# Altium footprint library jasiel.PcbLib: 39 footprints (part 3 of 3)
Each footprint in its own frame and in the unit in brackets; x right, y up, seen from the top. Pads: shape width x height; smd on the part's side, far side on the other; paste and mask are expansions set on the pad; w line width, h text height; cw(c..) or ccw(c..) is an arc to the next point about the centre after c.
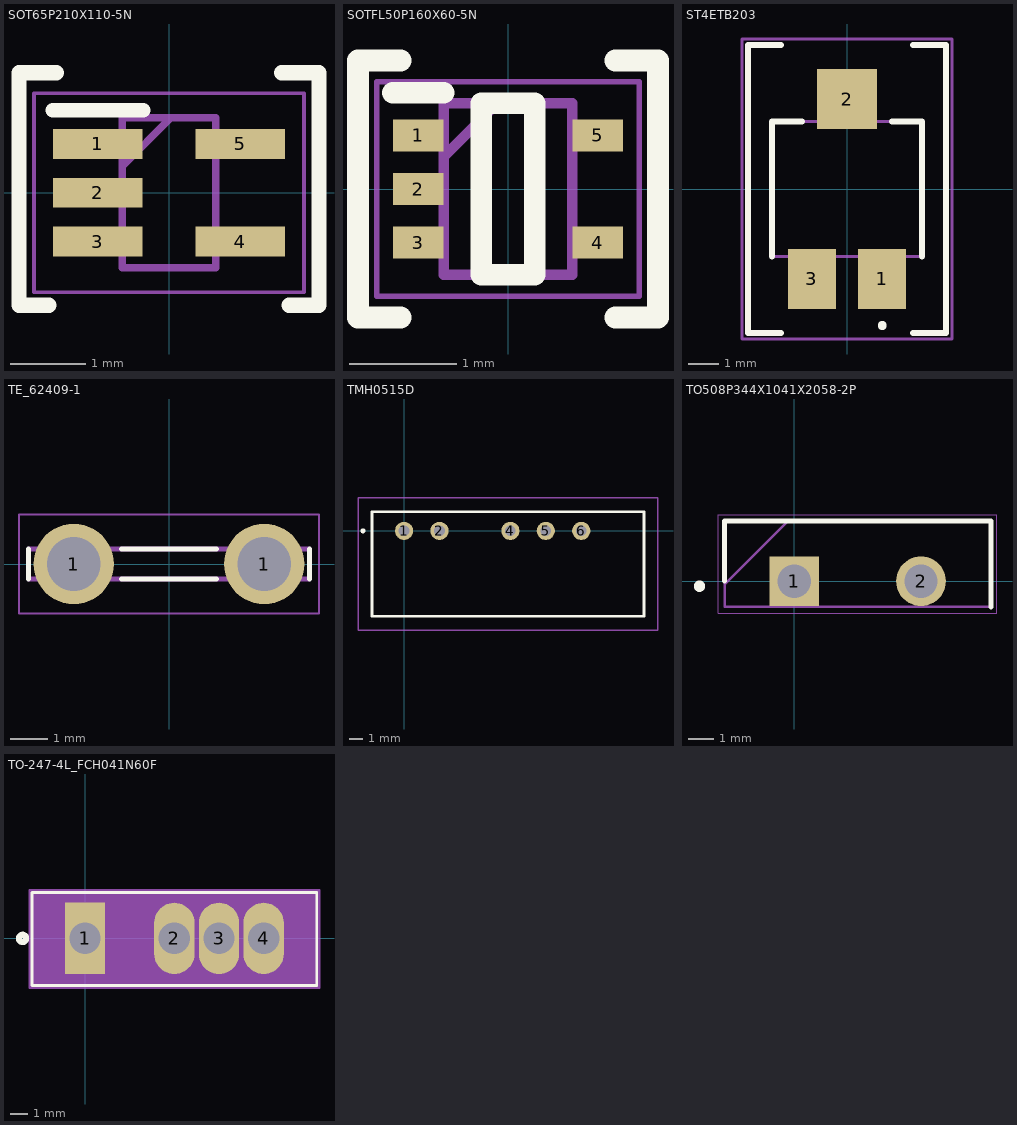
[diagram p2: the footprints below, top view; thin cyan lines are the x and y axes]

## SOT65P210X110-5N [mm]
pads (5):
  rect 1.2x0.4 smd: 1(-0.95,0.65) 2(-0.95,0) 3(-0.95,-0.65) 4(0.95,-0.65) 5(0.95,0.65)
Top Overlay:
  lines w0.2: -1.55,1.1 -0.35,1.1
  lines w0.203: -1.6,-1.5 -2,-1.5 -2,1.6 -1.5,1.6 ; 1.5,1.6 2,1.6 2,-1.5 1.6,-1.5
Mechanical 13:
  lines w0.1: -0.625,0.35 0.025,1 ; -0.625,-1 -0.625,1 0.625,1 0.625,-1 -0.625,-1
Mechanical 15:
  lines w0.05: -1.8,-1.325 -1.8,1.325 1.8,1.325 1.8,-1.325 -1.8,-1.325
3D body "SN74AHC1G09DCKR.stp": height 1.1, standoff 0, extent -1.2,-1 0.9,1

## SOTFL50P160X60-5N [mm]
pads (5):
  rect 0.475x0.3 smd: 1(-0.838,0.5) 2(-0.838,0) 3(-0.838,-0.5) 4(0.838,-0.5) 5(0.838,0.5)
Top Overlay:
  lines w0.2: -1.075,0.9 -0.6,0.9 ; -0.25,-0.8 -0.25,0.8 0.25,0.8 0.25,-0.8 -0.25,-0.8
  lines w0.203: -1,-1.2 -1.4,-1.2 -1.4,1.2 -1,1.2 ; 1,-1.2 1.4,-1.2 1.4,1.2 1,1.2
Mechanical 13:
  lines w0.1: -0.6,0.3 -0.1,0.8 ; -0.6,-0.8 -0.6,0.8 0.6,0.8 0.6,-0.8 -0.6,-0.8
Mechanical 15:
  lines w0.05: -1.225,-1 -1.225,1 1.225,1 1.225,-1 -1.225,-1
3D body "SN74AHC1G14DRLR.stp": height 0.6, standoff 0, extent -0.8,-0.8 0.8,0.8

## ST4ETB203 [mm]
pads (3):
  rect 1.6x2 smd: 1(1.175,-3) 3(-1.175,-3)
  rect 2x2 smd: 2(0,3)
Top Overlay:
  lines w0.2: -2.5,-2.25 -2.5,2.25 -1.5,2.25 ; 1.5,2.25 2.5,2.25 2.5,-2.25 ; 1.175,-4.6 cw(c1.175,-4.55) 1.175,-4.5 ; 1.175,-4.6 ccw(c1.175,-4.55) 1.175,-4.5 ; 1.175,-4.6 1.175,-4.5
  lines w0.203: -2.2,-4.8 -3.3,-4.8 -3.3,4.8 -2.2,4.8 ; 2.2,-4.8 3.3,-4.8 3.3,4.8 2.2,4.8
Mechanical 13:
  lines w0.1: -2.5,-2.25 -2.5,2.25 2.5,2.25 2.5,-2.25 -2.5,-2.25
Mechanical 15:
  lines w0.1: -3.5,-5 -3.5,5 3.5,5 3.5,-5 -3.5,-5
3D body "ST-4ETB203.stp": height 2.7, standoff 0, extent -2.5,-3.84 2.5,3.8

## TE_62409-1 [mm]
pads (2):
  round 2.145 hole 1.43: 1(-2.54,0) 1(2.54,0)
Top Overlay:
  lines w0.127: -3.75,-0.4 -3.75,0.4 ; -1.27,-0.4 1.27,-0.4 ; -1.27,0.4 1.27,0.4 ; 3.75,-0.4 3.75,0.4
Mechanical 13:
  lines w0.127: -3.75,-0.4 -3.75,0.4 3.75,0.4 3.75,-0.4 -3.75,-0.4
  text "'.Designator'" at -3.837,-0.87 h0.9
Mechanical 15:
  lines w0.05: -4,-1.32 -4,1.32 4,1.32 4,-1.32 -4,-1.32
3D body "Faston-62409-1--3DModel-STEP-1.STEP": height 12.64, standoff -3.16, extent -3.746,-0.4 3.747,0.4

## TMH0515D [mm]
pads (5):
  round 1.303 hole 0.76: 1(0,0) 2(2.54,0) 4(7.62,0) 5(10.16,0) 6(12.7,0)
Top Overlay:
  circle w0.254: c-2.95,0 r0.05
  lines w0.2: -3,0 cw(c-2.95,0) -2.9,0 ; -3,0 ccw(c-2.95,0) -2.9,0 ; -3,0 cw(c-2.95,0) -2.9,0 ; -2.3,-6.125 17.2,-6.125 17.2,1.375 -2.3,1.375 -2.3,-6.125
Mechanical 13:
  lines w0.1: -2.3,-6.125 17.2,-6.125 17.2,1.375 -2.3,1.375 -2.3,-6.125
Mechanical 15:
  lines w0.1: -3.3,-7.125 18.2,-7.125 18.2,2.375 -3.3,2.375 -3.3,-7.125
3D body "TMH_0515D.stp": height 10.2, standoff -3.2, extent -2.259,-6.497 17.369,1.438

## TO508P344X1041X2058-2P [mm]
pads (2):
  rect 1.995x1.995 hole 1.33: 1(0,0)
  round 1.995 hole 1.33: 2(5.08,0)
Top Overlay:
  circle w0.254: c-3.8,-0.2 r0.1
  lines w0.2: -2.795,0 -2.795,2.41 7.875,2.41 7.875,-1.03
Mechanical 13:
  lines w0.1: -2.795,-0.13 -0.255,2.41 ; -2.795,-1.03 -2.795,2.41 7.875,2.41 7.875,-1.03 -2.795,-1.03
Mechanical 15:
  lines w0.05: -3.045,-1.28 -3.045,2.66 8.125,2.66 8.125,-1.28 -3.045,-1.28
3D body "MP925-20.0K-1%.stp": height 19.71, standoff -32.52, extent -2.665,-1.03 7.745,2.41

## TO-247-4L_FCH041N60F [mm]
pads (4):
  rect 2.29x4.06 / inner rect 2.286x2.286 / far side rect 2.286x2.286 hole 1.78 mask+0: 1(0,0)
  oval 2.29x4.06 / inner round 1.575 / far side round 1.575 hole 1.78 mask+0: 2(5.08,0) 3(7.62,0) 4(10.16,0)
Top Overlay:
  circle w0.352: c-3.556,0 r0.203
  lines w0.152: -2.896,2.607 13.056,2.607 ; -3.023,-2.676 13.183,-2.676 13.183,2.607 -3.023,2.607 -3.023,-2.676
Mechanical 13:
  circle w0: c-2.642,-2.295 r0.203
  lines w0.025: -2.896,2.48 13.056,2.48 ; -2.896,2.48 13.056,2.48 ; -2.896,2.48 -2.896,-2.549 13.056,-2.549 13.056,2.48
  text "TAB" at 4.604,2.163 h0.64
  text "'.Designator'" at -2.542,-1.941 h0.76
Mechanical 15:
  region: 13.31,2.734 -3.15,2.734 -3.15,-2.803 13.31,-2.803
  lines w0.152: -3.15,-2.803 -3.15,2.734 13.31,2.734 13.31,-2.803 -3.15,-2.803
3D body: height 0.25, standoff 0, extent 0,0 0.254,0.254
3D body "TO247-4.step": height 25.13, standoff -15.79, extent -2.821,-2.549 12.981,2.451